# Altium schematic symbol library IRLML6402TRPBF.SCHLIB: 1 symbol
Pins are listed as number, name and electrical type; pins without a type are passive.

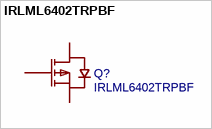
[diagram p0: symbol IRLML6402TRPBF]

## IRLML6402TRPBF
designator Q?
BOM_Manufacturer: IR; SMT Type: Extend; BOM_Supplier: LCSC; BOM_Manufacturer Part: IRLML6402TRPBF; image: //image.lceda.cn/szlcsc/C2593.jpg; BOM_Supplier Part: C2593; BOM_JLCPCB SMD: Yes; spicePre: Q; spiceSymbolName: IRLML6402TRPBF
footprint SOT-23-3_L2.9-W1.6-P1.90-LS2.8-BR
pins: 1 G, 2 S, 3 D